# EAGLE library part TEN-30 (library custom)
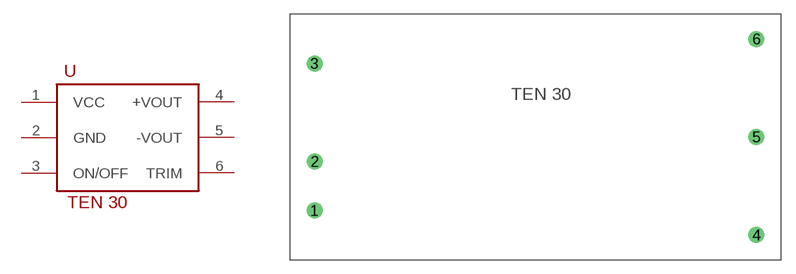
[diagram p4: symbol with the pads of TRACO2X1; footprint TRACO2X1]

Designator prefix -

## TEN-30  [TRACO2X1]
1  VCC
2  GND
3  ON/OFF
4  +VOUT
5  -VOUT
6  TRIM

## Footprint TRACO2X1 (pad centres in mm)
drill 1.1: 1 -22.86,-7.62; 2 -22.86,-2.54; 3 -22.86,7.62; 4 22.86,-10.16; 5 22.86,0; 6 22.86,10.16